# Altium footprint library ETA1090pcbV2.PcbLib: 10 footprints
Each footprint in its own frame and in the unit in brackets; x right, y up, seen from the top. Pads: shape width x height; smd on the part's side, far side on the other; paste and mask are expansions set on the pad; w line width, h text height; cw(c..) or ccw(c..) is an arc to the next point about the centre after c.
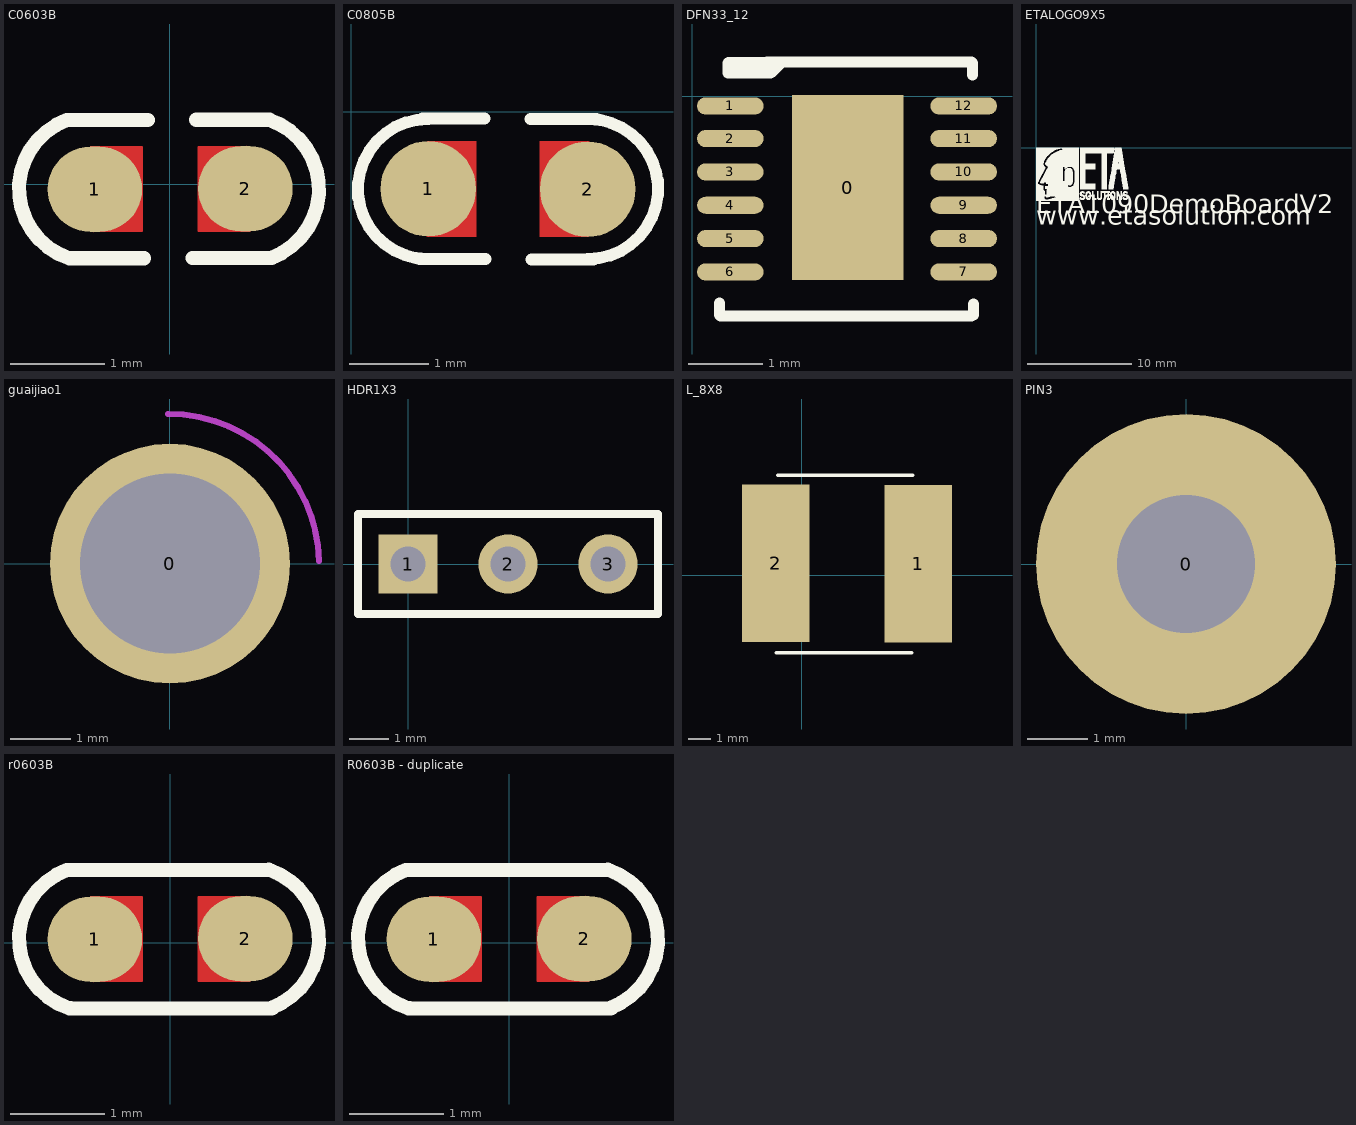
[diagram p0: the footprints below, top view; thin cyan lines are the x and y axes]

## C0603B [mm]
pads (2):
  oval 1x0.9 smd: 1(-0.792,-0.055) 2(0.799,-0.049)
Top Layer:
  region: -0.805,-0.507 -0.801,-0.503 -0.292,-0.503 -0.288,-0.499 -0.288,0.396 -0.292,0.4 -0.843,0.4
  region: 0.812,0.403 0.808,0.399 0.299,0.399 0.295,0.395 0.295,-0.5 0.299,-0.504 0.85,-0.504
Top Overlay:
  lines w0.15: -1.088,0.677 ccw(c-0.819,-0.05) -1.058,-0.786 ; -1.071,0.676 -0.233,0.676 ; -1.049,-0.784 -0.273,-0.784 ; 0.24,-0.78 1.078,-0.78 ; 0.28,0.68 1.056,0.68 ; 1.042,0.682 cw(c0.803,-0.054) 1.072,-0.781
Top Solder:
  region: -0.805,-0.507 -0.801,-0.503 -0.292,-0.503 -0.288,-0.499 -0.288,0.396 -0.292,0.4 -0.843,0.4
  region: 0.812,0.403 0.808,0.399 0.299,0.399 0.295,0.395 0.295,-0.5 0.299,-0.504 0.85,-0.504

## C0805B [mm]
pads (2):
  round 1.2 smd: 1(0.967,-0.968) 2(2.968,-0.973)
Top Layer:
  region: 2.983,-1.571 2.37,-1.571 2.368,-1.569 2.368,-0.374 2.989,-0.374 2.989,-1.556 2.98,-1.565
  region: 0.952,-0.37 1.565,-0.37 1.567,-0.372 1.567,-1.567 0.946,-1.567 0.946,-0.385 0.955,-0.376
Top Overlay:
  lines w0.15: 0.087,-1.079 0.087,-0.893 ; 0.856,-1.848 1.686,-1.848 ; 0.892,-0.088 1.674,-0.088 ; 0.96,-1.851 cw(c0.965,-0.971) 0.97,-0.091 ; 2.249,-0.093 3.079,-0.093 ; 2.261,-1.853 3.043,-1.853 ; 2.965,-1.85 ccw(c2.97,-0.97) 2.975,-0.09 ; 3.848,-1.048 3.848,-0.862
Top Solder:
  region: 2.983,-1.571 2.37,-1.571 2.368,-1.569 2.368,-0.374 2.989,-0.374 2.989,-1.556 2.98,-1.565
  region: 0.952,-0.37 1.565,-0.37 1.567,-0.372 1.567,-1.567 0.946,-1.567 0.946,-0.385 0.955,-0.376

## DFN33_12 [mm] "DFN33_12"
height 1.1
pads (13):
  rect 1.5x2.5 smd: 0(2.099,-1.232)
  oval 0.9x0.23 smd: 1(0.514,-0.131) 2(0.514,-0.571) 3(0.514,-1.021) 4(0.514,-1.471) 5(0.514,-1.921) 6(0.514,-2.371) 7(3.664,-2.371) 8(3.664,-1.921) 9(3.664,-1.471) 10(3.664,-1.021) 11(3.664,-0.571) 12(3.664,-0.131)
Top Overlay:
  lines w0.15: 0.37,-2.795 0.37,-2.953 0.382,-2.965 3.772,-2.965 ; 0.483,0.316 0.703,0.316 ; 0.483,0.336 0.483,0.446 ; 0.493,0.456 0.713,0.456 ; 0.503,0.446 0.723,0.446 ; 0.573,0.316 0.793,0.316 ; 0.573,0.456 0.793,0.456 ; 0.633,0.336 0.633,0.446 ; 0.673,0.326 0.673,0.436 ; 1.008,0.461 3.472,0.461 ; 1.013,0.456 0.793,0.456 ; 1.053,0.316 0.783,0.316 0.773,0.326 0.773,0.436 0.793,0.456 ; 1.068,0.321 1.208,0.461 ; 1.298,0.461 3.772,0.461 3.784,0.449 3.784,0.291 ; 3.796,-2.953 3.796,-2.807

## ETALOGO9X5 [mm]
height 1.1
Top Overlay:
  drawing of 1502 lines, arcs and shapes, not listed
  text "ETA1090DemoBoardV2" at 0.013,-6.313 h1.8
  text "www.etasolution.com" at -0.011,-7.446 h1.8

## guaijiao1 [mm]
height 1.1
pads (1):
  round 4 hole 3: 0(0.001,-0.002)
Keep-Out Layer:
  lines w0.1: -0.03,2.493 cw(c-0.015,-0.007) 2.485,0.041
Mechanical 1:
  lines w0.1: -0.03,2.493 cw(c-0.015,-0.007) 2.485,0.041

## HDR1X3 [mm] "Connector; Header; 3 Position"
height 1.1
pads (3):
  rect 1.5x1.5 hole 0.9: 1(0,0)
  round 1.5 hole 0.9: 2(2.54,0) 3(5.08,0)
Top Overlay:
  lines w0.2: -1.27,-1.27 -1.27,1.27 6.35,1.27 6.35,-1.27 -1.27,-1.27

## L_8X8 [mm]
height 1.1
pads (2):
  rect 3x7 smd: 1(5.185,0.511) 2(-1.167,0.525)
Top Overlay:
  lines w0.15: -1.148,-3.456 4.884,-3.456 ; -1.086,4.446 4.947,4.446

## PIN3 [mm]
height 1.1
pads (1):
  round 5 hole 2.3: 0(0,0)

## r0603B [mm]
pads (2):
  oval 1x0.9 smd: 1(-0.798,0.036) 2(0.793,0.042)
Top Layer:
  region: -0.811,-0.416 -0.807,-0.412 -0.298,-0.412 -0.294,-0.408 -0.294,0.487 -0.298,0.491 -0.849,0.491
  region: 0.806,0.494 0.802,0.49 0.293,0.49 0.289,0.486 0.289,-0.409 0.293,-0.413 0.844,-0.413
Top Overlay:
  lines w0.15: -1.094,0.768 ccw(c-0.825,0.041) -1.064,-0.695 ; -1.077,0.767 1.032,0.767 ; -1.055,-0.693 1.073,-0.695 ; 1.041,0.772 cw(c0.797,0.037) 1.066,-0.69 ; 1.072,-0.689 1.086,-0.689
Top Solder:
  region: -0.811,-0.416 -0.807,-0.412 -0.298,-0.412 -0.294,-0.408 -0.294,0.487 -0.298,0.491 -0.849,0.491
  region: 0.806,0.494 0.802,0.49 0.293,0.49 0.289,0.486 0.289,-0.409 0.293,-0.413 0.844,-0.413

## R0603B - duplicate [mm]
pads (2):
  oval 1x0.9 smd: 1(-0.798,0.036) 2(0.793,0.042)
Top Layer:
  region: -0.811,-0.416 -0.807,-0.412 -0.298,-0.412 -0.294,-0.408 -0.294,0.487 -0.298,0.491 -0.849,0.491
  region: 0.806,0.494 0.802,0.49 0.293,0.49 0.289,0.486 0.289,-0.409 0.293,-0.413 0.844,-0.413
Top Overlay:
  lines w0.15: -1.094,0.768 ccw(c-0.825,0.041) -1.064,-0.695 ; -1.077,0.767 1.032,0.767 ; -1.055,-0.693 1.073,-0.695 ; 1.041,0.772 cw(c0.797,0.037) 1.066,-0.69 ; 1.072,-0.689 1.086,-0.689
Top Solder:
  region: -0.811,-0.416 -0.807,-0.412 -0.298,-0.412 -0.294,-0.408 -0.294,0.487 -0.298,0.491 -0.849,0.491
  region: 0.806,0.494 0.802,0.49 0.293,0.49 0.289,0.486 0.289,-0.409 0.293,-0.413 0.844,-0.413